# Altium footprint library WR-TBL_Rising Cage Clamp_5.08mm.PcbLib: 81 footprints (part 1 of 6)
Each footprint in its own frame and in the unit in brackets; x right, y up, seen from the top. Pads: shape width x height; smd on the part's side, far side on the other; paste and mask are expansions set on the pad; w line width, h text height; cw(c..) or ccw(c..) is an arc to the next point about the centre after c.
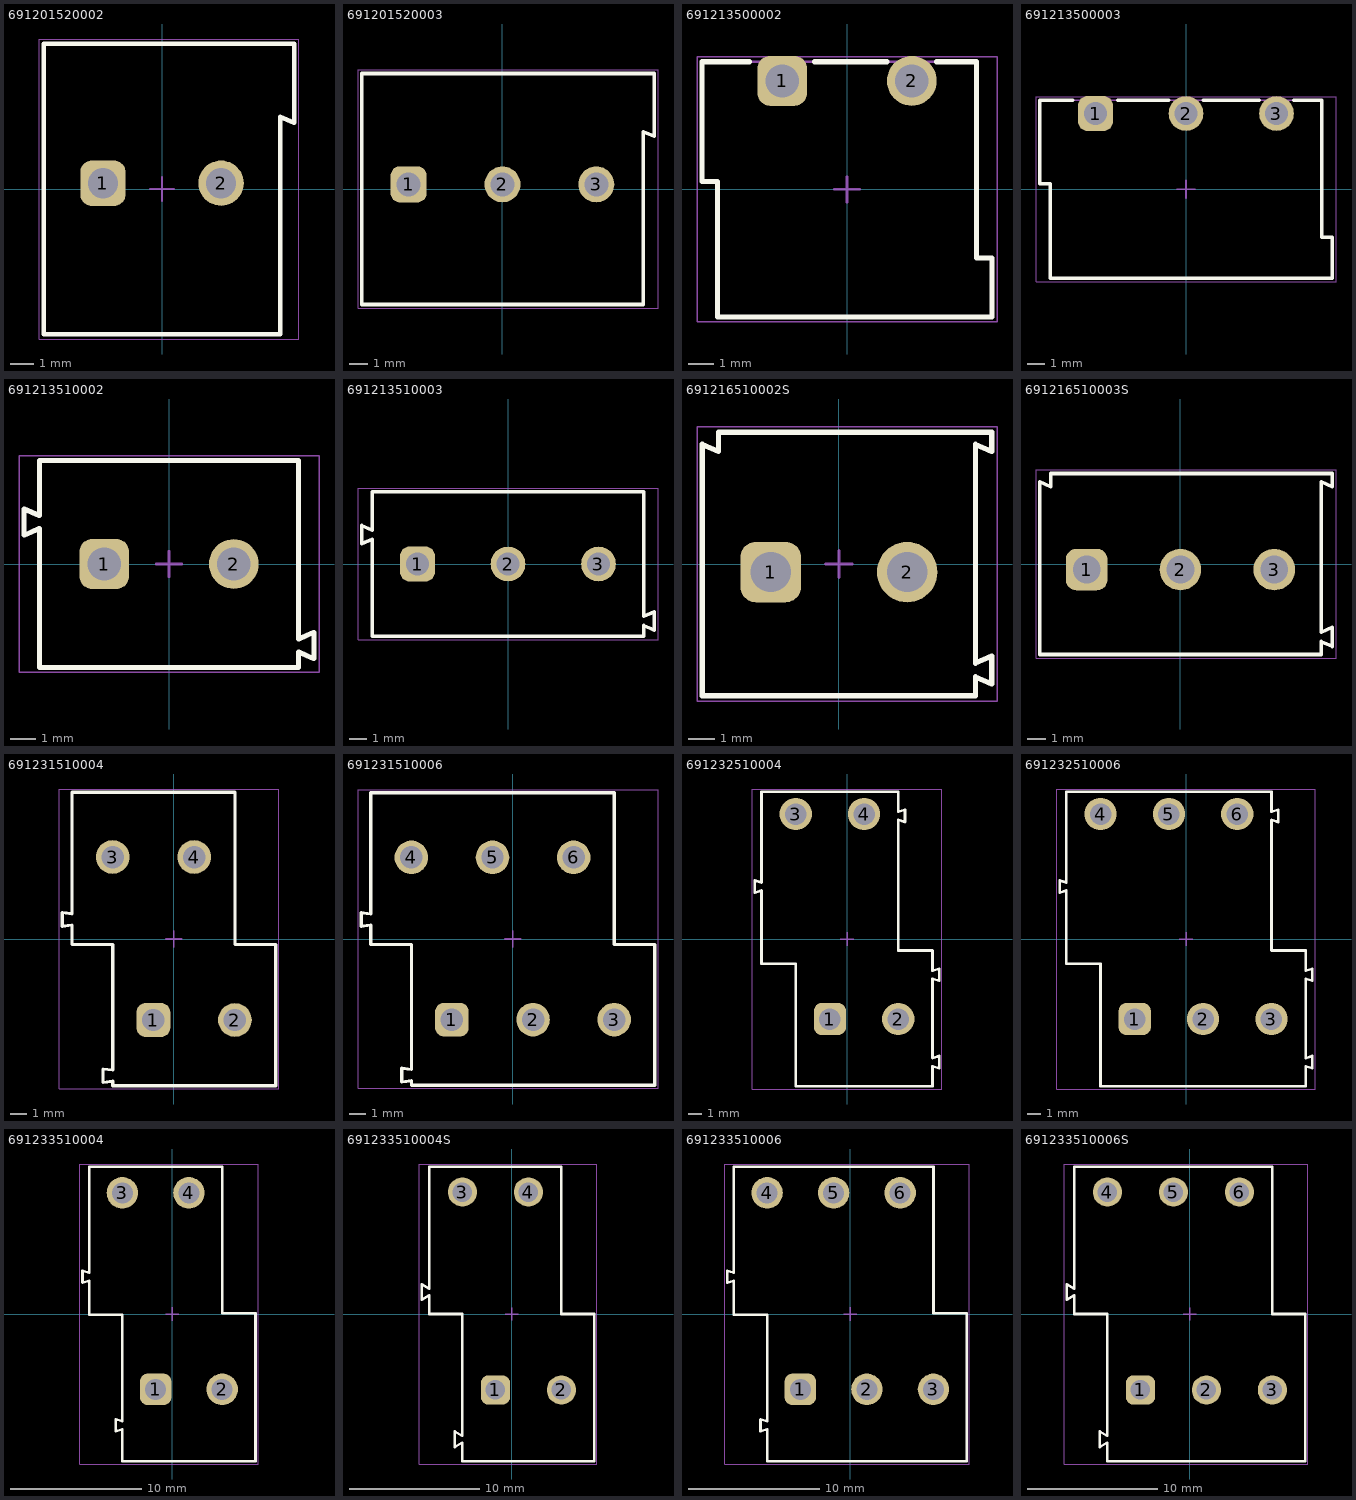
[diagram p0: the footprints below, top view; thin cyan lines are the x and y axes]

## 691201520002 [mm] "Serie 2015 - 5.08 mm _ 2 pins"
height 12
pads (2):
  rrect50% 1.95x1.95 hole 1.3: 1(-2.54,0.25)
  round 1.95 hole 1.3: 2(2.54,0.25)
Top Overlay:
  lines w0.2: -5.08,-6.25 5.08,-6.25 5.08,3.1 5.68,2.85 5.68,6.25 -5.08,6.25 -5.08,-6.25
Top Assembly:
  lines w0.1: -5.08,-6.25 -5.08,6.25 5.68,6.25 5.68,2.85 5.08,3.1 5.08,-6.25 -5.08,-6.25
Top Designator:
  text ".Designator" at -3.647,-0.357 h1
Top 3D Body:
  lines w0.1: -5.08,-6.25 5.08,-6.25 5.08,3.1 5.68,2.85 5.68,6.25 -5.08,6.25 -5.08,-6.25
Top Courtyard:
  lines w0.05: -5.28,-6.45 -5.28,6.45 5.88,6.45 5.88,-6.45 -5.28,-6.45
Top Component Center:
  lines w0.1: -0.5,0 0.5,0 ; 0,-0.5 0,0.5
3D body "691201520002.stp": height 12.1, standoff -4.4, extent -5.08,-6.25 5.68,6.25

## 691201520003 [mm] "Serie 2015 - 5.08 mm _ 3 pins"
height 12
pads (3):
  rrect50% 1.95x1.95 hole 1.3: 1(-5.08,0.25)
  round 1.95 hole 1.3: 2(0,0.25) 3(5.08,0.25)
Top Overlay:
  lines w0.2: -7.62,-6.25 -7.62,6.25 8.22,6.25 8.22,2.85 7.62,3.1 7.62,-6.25 -7.62,-6.25
Top Assembly:
  lines w0.1: -7.62,-6.25 7.62,-6.25 7.62,3.1 8.22,2.85 8.22,6.25 -7.62,6.25 -7.62,-6.25
Top Designator:
  text ".Designator" at -3.647,-0.357 h1
Top 3D Body:
  lines w0.1: -7.62,-6.25 -7.62,6.25 8.22,6.25 8.22,2.85 7.62,3.1 7.62,-6.25 -7.62,-6.25
Top Courtyard:
  lines w0.05: -7.82,-6.45 8.42,-6.45 8.42,6.45 -7.82,6.45 -7.82,-6.45
Top Component Center:
  lines w0.1: -0.5,0 0.5,0 ; 0,-0.5 0,0.5
3D body "691201520003.stp": height 12.1, standoff -4.4, extent -7.62,-6.25 8.22,6.25

## 691213500002 [mm] "Serie 2135 - 5.08 mm _ 2 pins"
height 8.1
pads (2):
  rrect50% 1.95x1.95 hole 1.3: 1(-2.54,4.25)
  round 1.95 hole 1.3: 2(2.54,4.25)
Top Overlay:
  lines w0.2: -3.83,5 -5.68,5 -5.68,0.3 -5.08,0.3 -5.08,-5 5.68,-5 5.68,-2.7 5.08,-2.7 5.08,5 3.51,5 ; -1.28,5 1.57,5
Top Assembly:
  lines w0.1: -5.68,0.3 -5.08,0.3 -5.08,-5 5.68,-5 5.68,-2.7 5.08,-2.7 5.08,5 -5.68,5 -5.68,0.3
Top Designator:
  text ".Designator" at -3.647,-0.357 h1
Top 3D Body:
  lines w0.1: -5.68,0.3 -5.68,5 5.08,5 5.08,-2.7 5.68,-2.7 5.68,-5 -5.08,-5 -5.08,0.3 -5.68,0.3
Top Courtyard:
  lines w0.05: -5.88,-5.2 -5.88,5.2 5.88,5.2 5.88,-5.2 -5.88,-5.2
Top Component Center:
  lines w0.1: -0.5,0 0.5,0 ; 0,-0.5 0,0.5
3D body "691213500002.stp": height 8.15, standoff -3.45, extent -5.68,-5 5.68,5

## 691213500003 [mm] "Serie 2135 - 5.08 mm_ 3 pins"
height 8.1
pads (3):
  rrect50% 1.95x1.95 hole 1.3: 1(-5.08,4.25)
  round 1.95 hole 1.3: 2(0,4.25) 3(5.08,4.25)
Top Overlay:
  lines w0.2: -6.37,5 -8.22,5 -8.22,0.3 -7.62,0.3 -7.62,-5 8.22,-5 8.22,-2.7 7.62,-2.7 7.62,5 6.05,5 ; -3.82,5 -0.97,5 ; 0.97,5 4.1,5
Top Assembly:
  lines w0.1: -8.22,0.3 -7.62,0.3 -7.62,-5 8.22,-5 8.22,-2.7 7.62,-2.7 7.62,5 -8.22,5 -8.22,0.3
Top Designator:
  text ".Designator" at -3.647,-0.357 h1
Top 3D Body:
  lines w0.1: -8.22,0.3 -8.22,5 7.62,5 7.62,-2.7 8.22,-2.7 8.22,-5 -7.62,-5 -7.62,0.3 -8.22,0.3
Top Courtyard:
  lines w0.05: -8.42,-5.2 -8.42,5.2 8.42,5.2 8.42,-5.2 -8.42,-5.2
Top Component Center:
  lines w0.1: -0.5,0 0.5,0 ; 0,-0.5 0,0.5
3D body "691213500003.stp": height 8.15, standoff -3.45, extent -8.22,-5 8.22,5

## 691213510002 [mm] "Serie 2135 - 5.08 mm _ 2 pins"
height 10
pads (2):
  rrect50% 1.95x1.95 hole 1.3: 1(-2.54,0)
  round 1.95 hole 1.3: 2(2.54,0)
Top Overlay:
  lines w0.2: -5.081,-4.019 -5.081,1.392 -5.68,1.13 -5.68,2.16 -5.081,1.898 ; -5.08,-4.05 5.08,-4.05 5.08,-3.45 5.68,-3.711 ; -5.08,1.9 -5.08,4.05 5.08,4.05 5.08,-2.941 5.68,-2.68 5.68,-3.71
Top Assembly:
  lines w0.1: -5.081,-4.019 -5.081,1.392 -5.68,1.13 -5.68,2.16 -5.081,1.898 ; -5.08,-4.05 5.08,-4.05 5.08,-3.45 5.68,-3.711 ; -5.08,1.9 -5.08,4.05 5.08,4.05 5.08,-2.941 5.68,-2.68 5.68,-3.71
Top Designator:
  text ".Designator" at -3.647,-0.357 h1
Top 3D Body:
  lines w0.1: -5.081,-4.019 -5.081,1.392 -5.68,1.13 -5.68,2.16 -5.081,1.898 ; -5.08,-4.05 5.08,-4.05 5.08,-3.45 5.68,-3.711 ; -5.08,1.9 -5.08,4.05 5.08,4.05 5.08,-2.941 5.68,-2.68 5.68,-3.71
Top Courtyard:
  lines w0.05: -5.88,-4.25 -5.88,4.25 5.88,4.25 5.88,-4.25 -5.88,-4.25
Top Component Center:
  lines w0.1: -0.5,0 0.5,0 ; 0,-0.5 0,0.5
3D body "691213510002.stp": height 10.1, standoff -3.4, extent -5.68,-4.05 5.68,4.05

## 691213510003 [mm] "Serie 2135 - 5.08 mm _ 3 pins"
height 10
pads (3):
  rrect50% 1.95x1.95 hole 1.3: 1(-5.08,0)
  round 1.95 hole 1.3: 2(0,0) 3(5.08,0)
Top Overlay:
  lines w0.2: -7.621,-4.019 -7.621,1.392 -8.22,1.13 -8.22,2.16 -7.621,1.898 ; -7.62,-4.05 7.62,-4.05 7.62,-3.45 8.22,-3.711 ; -7.62,1.9 -7.62,4.05 7.62,4.05 7.62,-2.941 8.22,-2.68 8.22,-3.71
Top Assembly:
  lines w0.1: -7.621,-4.019 -7.621,1.392 -8.22,1.13 -8.22,2.16 -7.621,1.898 ; -7.62,-4.05 7.62,-4.05 7.62,-3.45 8.22,-3.711 ; -7.62,1.9 -7.62,4.05 7.62,4.05 7.62,-2.941 8.22,-2.68 8.22,-3.71
Top Designator:
  text ".Designator" at -3.647,-0.357 h1
Top 3D Body:
  lines w0.1: -7.621,-4.019 -7.621,1.392 -8.22,1.13 -8.22,2.16 -7.621,1.898 ; -7.62,-4.05 7.62,-4.05 7.62,-3.45 8.22,-3.711 ; -7.62,1.9 -7.62,4.05 7.62,4.05 7.62,-2.941 8.22,-2.68 8.22,-3.71
Top Courtyard:
  lines w0.05: -8.42,-4.25 -8.42,4.25 8.42,4.25 8.42,-4.25 -8.42,-4.25
Top Component Center:
  lines w0.1: -0.5,0 0.5,0 ; 0,-0.5 0,0.5
3D body "691213510003.stp": height 10.1, standoff -3.4, extent -8.22,-4.05 8.22,4.05

## 691216510002S [mm] "Serie 2165S - 5.08 mm _ 2 pins"
height 13.8
pads (2):
  rrect50% 2.25x2.25 hole 1.5: 1(-2.54,-0.3)
  round 2.25 hole 1.5: 2(2.54,-0.3)
Top Overlay:
  lines w0.2: -4.48,4.19 -4.48,4.9 5.68,4.9 5.68,4.19 ; -4.48,4.19 -5.08,4.45 -5.08,-4.9 5.08,-4.9 5.08,-4.2 5.68,-4.461 5.68,-3.43 5.08,-3.691 5.08,4.45 5.679,4.188
Top Assembly:
  lines w0.1: -4.48,4.19 -4.48,4.9 5.68,4.9 5.68,4.19 ; -4.48,4.19 -5.08,4.45 -5.08,-4.9 5.08,-4.9 5.08,-4.2 5.68,-4.461 5.68,-3.43 5.08,-3.691 5.08,4.45 5.679,4.188
Top Designator:
  text ".Designator" at -3.647,-0.357 h1
Top 3D Body:
  lines w0.1: -4.48,4.19 -4.48,4.9 5.68,4.9 5.68,4.19 ; -4.48,4.19 -5.08,4.45 -5.08,-4.9 5.08,-4.9 5.08,-4.2 5.68,-4.461 5.68,-3.43 5.08,-3.691 5.08,4.45 5.679,4.188
Top Courtyard:
  lines w0.05: -5.28,-5.1 -5.28,5.1 5.88,5.1 5.88,-5.1 -5.28,-5.1
Top Component Center:
  lines w0.1: -0.5,0 0.5,0 ; 0,-0.5 0,0.5
3D body "691216510002S.stp": height 13.85, standoff -3.45, extent -5.08,-4.9 5.68,4.9

## 691216510003S [mm] "Serie 2165S - 5.08 mm _ 3 pins"
height 13.8
pads (3):
  rrect50% 2.25x2.25 hole 1.5: 1(-5.08,-0.3)
  round 2.25 hole 1.5: 2(0,-0.3) 3(5.08,-0.3)
Top Overlay:
  lines w0.2: -7.02,4.19 -7.02,4.9 8.22,4.9 8.22,4.19 ; -7.02,4.19 -7.62,4.45 -7.62,-4.9 7.62,-4.9 7.62,-4.2 8.22,-4.461 8.22,-3.43 7.62,-3.691 7.62,4.45 8.219,4.188
Top Assembly:
  lines w0.1: -7.02,4.19 -7.02,4.9 8.22,4.9 8.22,4.19 ; -7.02,4.19 -7.62,4.45 -7.62,-4.9 7.62,-4.9 7.62,-4.2 8.22,-4.461 8.22,-3.43 7.62,-3.691 7.62,4.45 8.219,4.188
Top Designator:
  text ".Designator" at -3.647,-0.357 h1
Top 3D Body:
  lines w0.1: -7.02,4.19 -7.02,4.9 8.22,4.9 8.22,4.19 ; -7.02,4.19 -7.62,4.45 -7.62,-4.9 7.62,-4.9 7.62,-4.2 8.22,-4.461 8.22,-3.43 7.62,-3.691 7.62,4.45 8.219,4.188
Top Courtyard:
  lines w0.05: -7.82,-5.1 -7.82,5.1 8.42,5.1 8.42,-5.1 -7.82,-5.1
Top Component Center:
  lines w0.1: -0.5,0 0.5,0 ; 0,-0.5 0,0.5
3D body "691216510003S.stp": height 13.85, standoff -3.45, extent -7.62,-4.9 8.22,4.9

## 691231510004 [mm] "5,08mm - modular - 2 rows - Right - horizontal entry with rising cage clamp - 04p - h=19,1mm"
height 19.1
pads (4):
  rrect50% 2.1x2.1 hole 1.4: 1(-1.27,-5.05)
  round 2.1 hole 1.4: 2(3.81,-5.05) 3(-3.81,5.11) 4(1.27,5.11)
Top Overlay:
  lines w0.2: -6.95,0.795 -6.35,0.87 -6.35,-0.35 -3.81,-0.35 -3.81,-8.17 -4.41,-8.095 -4.41,-8.945 -3.81,-8.87 -3.81,-9.15 6.35,-9.15 6.35,-0.35 3.81,-0.35 3.81,9.15 -6.35,9.15 -6.35,1.57 -6.95,1.645 -6.95,0.795
Top Assembly:
  lines w0.1: -6.95,0.795 -6.95,1.645 -6.35,1.57 -6.35,9.15 3.81,9.15 3.81,-0.35 6.35,-0.35 6.35,-9.15 -3.81,-9.15 -3.81,-8.87 -4.41,-8.945 -4.41,-8.095 -3.81,-8.17 -3.81,-0.35 -6.35,-0.35 -6.35,0.87 -6.95,0.795
Top Designator:
  text ".Designator" at -3.647,-0.357 h1
Top 3D Body:
  lines w0.1: -6.95,0.795 -6.35,0.87 -6.35,-0.35 -3.81,-0.35 -3.81,-8.17 -4.41,-8.095 -4.41,-8.945 -3.81,-8.87 -3.81,-9.15 6.35,-9.15 6.35,-0.35 3.81,-0.35 3.81,9.15 -6.35,9.15 -6.35,1.57 -6.95,1.645 -6.95,0.795
Top Courtyard:
  lines w0.05: -7.15,-9.35 6.55,-9.35 6.55,9.35 -7.15,9.35 -7.15,-9.35
Top Component Center:
  lines w0.1: -0.5,0 0.5,0 ; 0,-0.5 0,0.5
3D body "691231510004.stp": height 19.15, standoff -3.45, extent -6.95,-9.15 6.35,9.15

## 691231510006 [mm] "5,08mm - modular - 2 rows - Right - horizontal entry with rising cage clamp - 06p - h=19,1mm"
height 19.1
pads (6):
  rrect50% 2.1x2.1 hole 1.4: 1(-3.81,-5.05)
  round 2.1 hole 1.4: 2(1.27,-5.05) 3(6.35,-5.05) 4(-6.35,5.11) 5(-1.27,5.11) 6(3.81,5.11)
Top Overlay:
  lines w0.2: -9.49,0.795 -9.49,1.645 -8.89,1.57 -8.89,9.15 6.35,9.15 6.35,-0.35 8.89,-0.35 8.89,-9.15 -6.35,-9.15 -6.35,-8.87 -6.95,-8.945 -6.95,-8.095 -6.35,-8.17 -6.35,-0.35 -8.89,-0.35 -8.89,0.87 -9.49,0.795
Top Assembly:
  lines w0.1: -9.49,0.795 -8.89,0.87 -8.89,-0.35 -6.35,-0.35 -6.35,-8.17 -6.95,-8.095 -6.95,-8.945 -6.35,-8.87 -6.35,-9.15 8.89,-9.15 8.89,-0.35 6.35,-0.35 6.35,9.15 -8.89,9.15 -8.89,1.57 -9.49,1.645 -9.49,0.795
Top Designator:
  text ".Designator" at -3.647,-0.357 h1
Top 3D Body:
  lines w0.1: -9.49,0.795 -9.49,1.645 -8.89,1.57 -8.89,9.15 6.35,9.15 6.35,-0.35 8.89,-0.35 8.89,-9.15 -6.35,-9.15 -6.35,-8.87 -6.95,-8.945 -6.95,-8.095 -6.35,-8.17 -6.35,-0.35 -8.89,-0.35 -8.89,0.87 -9.49,0.795
Top Courtyard:
  lines w0.05: -9.69,-9.35 -9.69,9.35 9.09,9.35 9.09,-9.35 -9.69,-9.35
Top Component Center:
  lines w0.1: -0.5,0 0.5,0 ; 0,-0.5 0,0.5
3D body "691231510006.stp": height 19.15, standoff -3.45, extent -9.49,-9.15 8.89,9.15

## 691232510004 [mm] "5,08mm - modular - 2 rows - Right - horizontal entry with rising cage clamp - 04p - h=25,3mm"
height 25.3
pads (4):
  rrect50% 2.4x2.4 hole 1.6: 1(-1.27,-5.95)
  round 2.4 hole 1.6: 2(3.81,-5.95) 3(-3.81,9.29) 4(1.27,9.29)
Top Overlay:
  lines w0.2: -6.35,-1.85 -3.81,-1.85 -3.81,-10.95 6.35,-10.95 6.35,-9.45 6.85,-9.6 6.85,-8.7 6.35,-8.85 6.35,-2.95 6.85,-3.1 6.85,-2.2 6.35,-2.35 6.35,-0.85 3.81,-0.85 3.81,8.85 4.309,8.697 ; -6.351,-1.849 -6.351,3.602 -6.85,3.45 -6.85,4.35 -6.351,4.198 ; -6.35,4.2 -6.35,10.95 3.81,10.95 3.81,9.45 4.309,9.603 ; 4.31,8.7 4.31,9.6
Top Assembly:
  lines w0.1: -6.35,-1.85 -3.81,-1.85 -3.81,-10.95 6.35,-10.95 6.35,-9.45 6.85,-9.6 6.85,-8.7 6.35,-8.85 6.35,-2.95 6.85,-3.1 6.85,-2.2 6.35,-2.35 6.35,-0.85 3.81,-0.85 3.81,8.85 4.309,8.697 ; -6.351,-1.849 -6.351,3.602 -6.85,3.45 -6.85,4.35 -6.351,4.198 ; -6.35,4.2 -6.35,10.95 3.81,10.95 3.81,9.45 4.309,9.603 ; 4.31,8.7 4.31,9.6
Top Designator:
  text ".Designator" at -3.647,-0.357 h1
Top 3D Body:
  lines w0.1: -6.35,-1.85 -3.81,-1.85 -3.81,-10.95 6.35,-10.95 6.35,-9.45 6.85,-9.6 6.85,-8.7 6.35,-8.85 6.35,-2.95 6.85,-3.1 6.85,-2.2 6.35,-2.35 6.35,-0.85 3.81,-0.85 3.81,8.85 4.309,8.697 ; -6.351,-1.849 -6.351,3.602 -6.85,3.45 -6.85,4.35 -6.351,4.198 ; -6.35,4.2 -6.35,10.95 3.81,10.95 3.81,9.45 4.309,9.603 ; 4.31,8.7 4.31,9.6
Top Courtyard:
  lines w0.05: -7.05,-11.15 7.05,-11.15 7.05,11.15 -7.05,11.15 -7.05,-11.15
Top Component Center:
  lines w0.1: -0.5,0 0.5,0 ; 0,-0.5 0,0.5
3D body "691232510004.stp": height 25.35, standoff -3.45, extent -6.81,-10.95 6.85,10.95

## 691232510006 [mm] "5,08mm - modular - 2 rows - Right - horizontal entry with rising cage clamp - 06p - h=25,3mm"
height 25.3
pads (6):
  rrect50% 2.4x2.4 hole 1.6: 1(-3.81,-5.95)
  round 2.4 hole 1.6: 2(1.27,-5.95) 3(6.35,-5.95) 4(-6.35,9.29) 5(-1.27,9.29) 6(3.81,9.29)
Top Overlay:
  lines w0.2: -8.89,-1.85 -6.35,-1.85 -6.35,-10.95 8.89,-10.95 8.89,-9.45 9.39,-9.6 9.39,-8.7 8.89,-8.85 8.89,-2.95 9.39,-3.1 9.39,-2.2 8.89,-2.35 8.89,-0.85 6.35,-0.85 6.35,8.85 6.849,8.697 ; -8.891,-1.849 -8.891,3.602 -9.39,3.45 -9.39,4.35 -8.891,4.198 ; -8.89,4.2 -8.89,10.95 6.35,10.95 6.35,9.45 6.849,9.603 ; 6.85,8.7 6.85,9.6
Top Assembly:
  lines w0.1: -8.89,-1.85 -6.35,-1.85 -6.35,-10.95 8.89,-10.95 8.89,-9.45 9.39,-9.6 9.39,-8.7 8.89,-8.85 8.89,-2.95 9.39,-3.1 9.39,-2.2 8.89,-2.35 8.89,-0.85 6.35,-0.85 6.35,8.85 6.849,8.697 ; -8.891,-1.849 -8.891,3.602 -9.39,3.45 -9.39,4.35 -8.891,4.198 ; -8.89,4.2 -8.89,10.95 6.35,10.95 6.35,9.45 6.849,9.603 ; 6.85,8.7 6.85,9.6
Top Designator:
  text ".Designator" at -3.647,-0.357 h1
Top 3D Body:
  lines w0.1: -8.89,-1.85 -6.35,-1.85 -6.35,-10.95 8.89,-10.95 8.89,-9.45 9.39,-9.6 9.39,-8.7 8.89,-8.85 8.89,-2.95 9.39,-3.1 9.39,-2.2 8.89,-2.35 8.89,-0.85 6.35,-0.85 6.35,8.85 6.849,8.697 ; -8.891,-1.849 -8.891,3.602 -9.39,3.45 -9.39,4.35 -8.891,4.198 ; -8.89,4.2 -8.89,10.95 6.35,10.95 6.35,9.45 6.849,9.603 ; 6.85,8.7 6.85,9.6
Top Courtyard:
  lines w0.05: -9.59,-11.15 9.59,-11.15 9.59,11.15 -9.59,11.15 -9.59,-11.15
Top Component Center:
  lines w0.1: -0.5,0 0.5,0 ; 0,-0.5 0,0.5
3D body "691232510006.stp": height 25.35, standoff -3.45, extent -9.37,-10.95 9.37,10.95

## 691233510004 [mm] "5,08mm - modular - 2 rows - Right - horizontal entry with rising cage clamp - 04p - h=31,5mm"
height 31.5
pads (4):
  rrect50% 2.4x2.4 hole 1.6: 1(-1.27,-5.75)
  round 2.4 hole 1.6: 2(3.81,-5.75) 3(-3.81,9.25) 4(1.27,9.25)
Top Overlay:
  lines w0.2: -6.35,2.55 -6.35,-0.05 -3.81,-0.05 ; -6.35,2.551 -6.85,2.4 -6.85,3.3 -6.35,3.149 -6.35,11.25 3.81,11.25 3.81,0.05 6.35,0.05 6.35,-11.25 -3.81,-11.25 -3.81,-8.8 ; -3.81,-8.799 -4.31,-8.95 -4.31,-8.05 -3.81,-8.201 -3.81,-0.05
Top Assembly:
  lines w0.1: -6.35,2.55 -6.35,-0.05 -3.81,-0.05 ; -6.35,2.551 -6.85,2.4 -6.85,3.3 -6.35,3.149 -6.35,11.25 3.81,11.25 3.81,0.05 6.35,0.05 6.35,-11.25 -3.81,-11.25 -3.81,-8.8 ; -3.81,-8.799 -4.31,-8.95 -4.31,-8.05 -3.81,-8.201 -3.81,-0.05
Top Designator:
  text ".Designator" at -3.647,-0.357 h1
Top 3D Body:
  lines w0.1: -6.35,2.55 -6.35,-0.05 -3.81,-0.05 ; -6.35,2.551 -6.85,2.4 -6.85,3.3 -6.35,3.149 -6.35,11.25 3.81,11.25 3.81,0.05 6.35,0.05 6.35,-11.25 -3.81,-11.25 -3.81,-8.8 ; -3.81,-8.799 -4.31,-8.95 -4.31,-8.05 -3.81,-8.201 -3.81,-0.05
Top Courtyard:
  lines w0.05: -7.05,-11.45 -7.05,11.45 6.55,11.45 6.55,-11.45 -7.05,-11.45
Top Component Center:
  lines w0.1: -0.5,0 0.5,0 ; 0,-0.5 0,0.5
3D body "691233510004.stp": height 31.55, standoff -4.95, extent -6.85,-11.25 6.35,11.25

## 691233510004S [mm] "5.08 mm Horizontal Entry with Rising Cage Clamp, 4p"
height 31.5
pads (4):
  rrect50% 2.25x2.25 hole 1.5: 1(-1.27,-5.85)
  round 2.25 hole 1.5: 2(3.81,-5.85) 3(-3.81,9.39) 4(1.27,9.39)
Top Overlay:
  lines w0.2: -6.95,1.095 -6.35,1.44 -6.35,0 -3.81,0 -3.81,-9.39 -4.41,-9.045 -4.41,-10.245 -3.81,-9.9 -3.81,-11.35 6.35,-11.35 6.35,0 3.81,0 3.81,11.35 -6.35,11.35 -6.35,1.95 -6.95,2.295 -6.95,1.095
Top Assembly:
  lines w0.1: -6.95,1.095 -6.95,2.295 -6.35,1.95 -6.35,11.35 3.81,11.35 3.81,0 6.35,0 6.35,-11.35 -3.81,-11.35 -3.81,-9.9 -4.41,-10.245 -4.41,-9.045 -3.81,-9.39 -3.81,0 -6.35,0 -6.35,1.44 -6.95,1.095
Top Designator:
  text ".Designator" at -3.647,-0.357 h1
Top 3D Body:
  lines w0.1: -6.95,1.095 -6.35,1.44 -6.35,0 -3.81,0 -3.81,-9.39 -4.41,-9.045 -4.41,-10.245 -3.81,-9.9 -3.81,-11.35 6.35,-11.35 6.35,0 3.81,0 3.81,11.35 -6.35,11.35 -6.35,1.95 -6.95,2.295 -6.95,1.095
Top Courtyard:
  lines w0.05: -7.15,-11.55 -7.15,11.55 6.55,11.55 6.55,-11.55 -7.15,-11.55
Top Component Center:
  lines w0.1: -0.5,0 0.5,0 ; 0,-0.5 0,0.5
3D body "691233510004S.stp": height 31.6, standoff -3.9, extent -6.95,-11.35 6.35,11.35

## 691233510006 [mm] "5,08mm - modular - 2 rows - Right - horizontal entry with rising cage clamp - 06p - h=31,5mm"
height 31.5
pads (6):
  rrect50% 2.4x2.4 hole 1.6: 1(-3.81,-5.75)
  round 2.4 hole 1.6: 2(1.27,-5.75) 3(6.35,-5.75) 4(-6.35,9.25) 5(-1.27,9.25) 6(3.81,9.25)
Top Overlay:
  lines w0.2: -8.89,2.55 -8.89,-0.05 -6.35,-0.05 ; -8.89,2.551 -9.39,2.4 -9.39,3.3 -8.89,3.149 -8.89,11.25 6.35,11.25 6.35,0.05 8.89,0.05 8.89,-11.25 -6.35,-11.25 -6.35,-8.8 ; -6.35,-8.799 -6.85,-8.95 -6.85,-8.05 -6.35,-8.201 -6.35,-0.05
Top Assembly:
  lines w0.1: -8.89,2.55 -8.89,-0.05 -6.35,-0.05 ; -8.89,2.551 -9.39,2.4 -9.39,3.3 -8.89,3.149 -8.89,11.25 6.35,11.25 6.35,0.05 8.89,0.05 8.89,-11.25 -6.35,-11.25 -6.35,-8.8 ; -6.35,-8.799 -6.85,-8.95 -6.85,-8.05 -6.35,-8.201 -6.35,-0.05
Top Designator:
  text ".Designator" at -3.647,-0.357 h1
Top 3D Body:
  lines w0.1: -8.89,2.55 -8.89,-0.05 -6.35,-0.05 ; -8.89,2.551 -9.39,2.4 -9.39,3.3 -8.89,3.149 -8.89,11.25 6.35,11.25 6.35,0.05 8.89,0.05 8.89,-11.25 -6.35,-11.25 -6.35,-8.8 ; -6.35,-8.799 -6.85,-8.95 -6.85,-8.05 -6.35,-8.201 -6.35,-0.05
Top Courtyard:
  lines w0.05: -9.59,-11.45 9.09,-11.45 9.09,11.45 -9.59,11.45 -9.59,-11.45
Top Component Center:
  lines w0.1: -0.5,0 0.5,0 ; 0,-0.5 0,0.5
3D body "691233510006.stp": height 31.55, standoff -4.95, extent -9.39,-11.25 8.89,11.25

## 691233510006S [mm] "5.08 mm Horizontal Entry with Rising Cage Clamp, 6p"
height 31.5
pads (6):
  rrect50% 2.25x2.25 hole 1.5: 1(-3.81,-5.85)
  round 2.25 hole 1.5: 2(1.27,-5.85) 3(6.35,-5.85) 4(-6.35,9.39) 5(-1.27,9.39) 6(3.81,9.39)
Top Overlay:
  lines w0.2: -9.49,1.095 -9.49,2.295 -8.89,1.95 -8.89,11.35 6.35,11.35 6.35,0 8.89,0 8.89,-11.35 -6.35,-11.35 -6.35,-9.9 -6.95,-10.245 -6.95,-9.045 -6.35,-9.39 -6.35,0 -8.89,0 -8.89,1.44 -9.49,1.095
Top Assembly:
  lines w0.1: -9.49,1.095 -8.89,1.44 -8.89,0 -6.35,0 -6.35,-9.39 -6.95,-9.045 -6.95,-10.245 -6.35,-9.9 -6.35,-11.35 8.89,-11.35 8.89,0 6.35,0 6.35,11.35 -8.89,11.35 -8.89,1.95 -9.49,2.295 -9.49,1.095
Top Designator:
  text ".Designator" at -3.647,-0.357 h1
Top 3D Body:
  lines w0.1: -9.49,1.095 -9.49,2.295 -8.89,1.95 -8.89,11.35 6.35,11.35 6.35,0 8.89,0 8.89,-11.35 -6.35,-11.35 -6.35,-9.9 -6.95,-10.245 -6.95,-9.045 -6.35,-9.39 -6.35,0 -8.89,0 -8.89,1.44 -9.49,1.095
Top Courtyard:
  lines w0.05: -9.69,-11.55 9.09,-11.55 9.09,11.55 -9.69,11.55 -9.69,-11.55
Top Component Center:
  lines w0.1: -0.5,0 0.5,0 ; 0,-0.5 0,0.5
3D body "691233510006S.stp": height 31.6, standoff -3.9, extent -9.49,-11.35 8.89,11.35